# EAGLE library part SRAM_SOCKET_PTH (library SamacSys_Parts)
8w IC socket stamped contacts ASSMANN WSW 2.54mm Pitch Vertical 8 Way, Through Hole Stamped Pin Open Frame IC Dip Socket, 1A Source: Datasheet <http://www.assmann-wsw.com/fileadmin/datasheets/ASS_0810_CO.pdf>
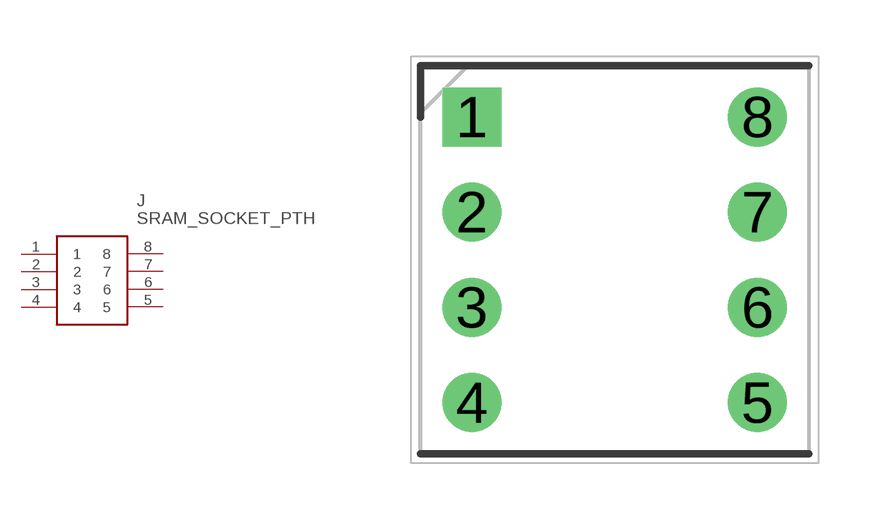
[diagram p2: symbol with the pads of DIPS762W61P254L1016H525Q8N; footprint DIPS762W61P254L1016H525Q8N]

Designator prefix J

## SRAM_SOCKET_PTH (ARROW_PART_NUMBER: A 08-LC-TT; ARROW_PRICE-STOCK: https://www.arrow.com/en/products/a08-lc-tt/assmann-wsw-components-inc; DESCRIPTION: 8w IC socket stamped contacts ASSMANN WSW 2.54mm Pitch Vertical 8 Way, Through Hole Stamped Pin Open Frame IC Dip Socket, 1A; HEIGHT: 5.25mm; MANUFACTURER_NAME: ASSMANN WSW components GmbH; MANUFACTURER_PART_NUMBER: A 08-LC-TT)  [DIPS762W61P254L1016H525Q8N]
1  1
2  2
3  3
4  4
5  5
6  6
7  7
8  8

## Footprint DIPS762W61P254L1016H525Q8N (pad centres in mm)
A 08-LC-TT
drill 1.05 pad 1.575 square: 1 0,0
drill 1.05 pad 1.575: 2 0,-2.54; 3 0,-5.08; 4 0,-7.62; 5 7.62,-7.62; 6 7.62,-5.08; 7 7.62,-2.54; 8 7.62,0